# Altium schematic symbol library LQH3NPN1R0MMEL.Schlib: 1 symbol
Pins are listed as number, name and electrical type; pins without a type are passive.

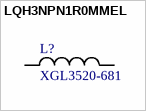
[diagram p0: symbol LQH3NPN1R0MMEL]

## LQH3NPN1R0MMEL
designator L?, comment XGL3520-681
Inductor
pins: 1, 2